# Altium integrated library Analog Devices RF IF Switches.IntLib: 52 symbols (part 3 of 3)
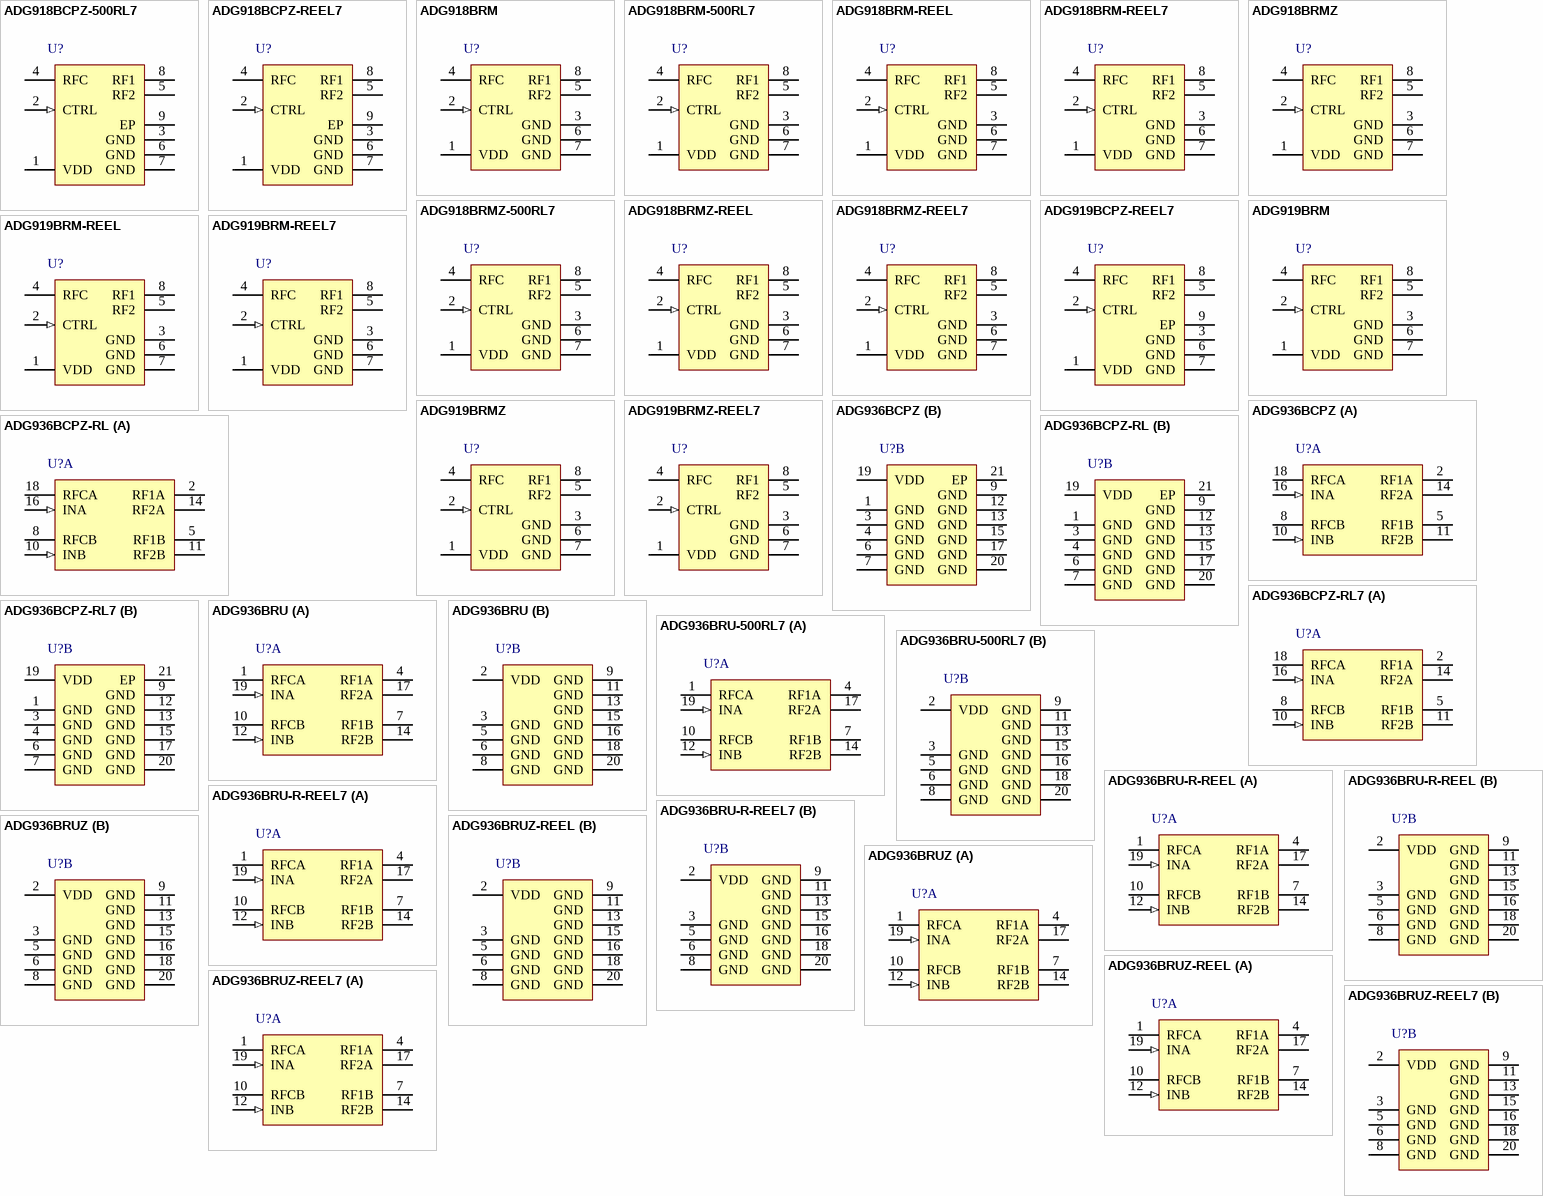
[diagram p3: symbols ADG918BCPZ-500RL7 to ADG936BRUZ-REEL7]

## ADG936BRUZ-REEL
designator U?
RF Switch, Wideband 4 GHz, 36 dB Isolation at 1 GHz, CMOS, 1.65 V to 2.75 V, Dual SPDT, RU-20, Pb-Free, 2500 Reel; Configuration: SPDT/NO-NC; # Sw Functions: 2; Supply Voltage: Single (+1.65V to +2.75V); Insertion Loss (dB): 900mdB; Bandwidth: 4GHz; P-1dB (dBm): 16; Off Isolation: 60dB; Off Isolation Test Freq: 100M; DatasheetVersion: RevA; PackageVersion: 2000; PackageReference: RU-20; PackageDescription: 20-Lead Thin Shrink Small Outline Package [TSSOP]; Code_JEDEC: MO-153AC; ComponentLink1Description: Manufacturer URL; ComponentLink1URL: www.analog.com; ComponentLink2Description: Datasheet; ComponentLink2URL: http://www.analog.com/static/imported-files/data_sheets/ADG936_936R.pdf; ComponentLink3Description: Package Specification; ComponentLink3URL: http://www.analog.com/static/imported-files/packages/364515793657813558433715854054607941441RU20.pdf
footprint ADI-RU-20_N (TSOP, 20-Leads, Body 6.5x4.4mm, Pitch 0.65mm, IPC Medium Density)
footprint ADI-RU-20_L (TSOP, 20-Leads, Body 6.5x4.4mm, Pitch 0.65mm, IPC High Density)
footprint ADI-RU-20_M (TSOP, 20-Leads, Body 6.5x4.4mm, Pitch 0.65mm, IPC Low Density)
part A pins: 1 RFCA "Common RF Port for Switch A.", 4 RF1A "RF1A Port.", 7 RF1B "RF1B Port.", 10 RFCB "Common RF Port for Switch B.", 12 INB (in) "Logic Control Input.", 14 RF2B "RF2B Port.", 17 RF2A "RF2A Port.", 19 INA (in) "Logic Control Input."
part B pins: 2 VDD (power) "Power Supply Input. These parts can operate from 1.65 V to 2.75 V. VDD should be decoupled to GND.", 3 GND (power) "Ground Reference Point for All Circuitry on the Part.", 5 GND (power) "Ground Reference Point for All Circuitry on the Part.", 6 GND (power) "Ground Reference Point for All Circuitry on the Part.", 8 GND (power) "Ground Reference Point for All Circuitry on the Part.", 9 GND (power) "Ground Reference Point for All Circuitry on the Part.", 11 GND (power) "Ground Reference Point for All Circuitry on the Part.", 13 GND (power) "Ground Reference Point for All Circuitry on the Part.", 15 GND (power) "Ground Reference Point for All Circuitry on the Part.", 16 GND (power) "Ground Reference Point for All Circuitry on the Part.", 18 GND (power) "Ground Reference Point for All Circuitry on the Part.", 20 GND (power) "Ground Reference Point for All Circuitry on the Part."

## ADG936BRUZ-REEL7
designator U?
RF Switch, Wideband 4 GHz, 36 dB Isolation at 1 GHz, CMOS, 1.65 V to 2.75 V, Dual SPDT, RU-20, Pb-Free, 1000 Reel; Configuration: SPDT/NO-NC; # Sw Functions: 2; Supply Voltage: Single (+1.65V to +2.75V); Insertion Loss (dB): 900mdB; Bandwidth: 4GHz; P-1dB (dBm): 16; Off Isolation: 60dB; Off Isolation Test Freq: 100M; DatasheetVersion: RevA; PackageVersion: 2000; PackageReference: RU-20; PackageDescription: 20-Lead Thin Shrink Small Outline Package [TSSOP]; Code_JEDEC: MO-153AC; ComponentLink1Description: Manufacturer URL; ComponentLink1URL: www.analog.com; ComponentLink2Description: Datasheet; ComponentLink2URL: http://www.analog.com/static/imported-files/data_sheets/ADG936_936R.pdf; ComponentLink3Description: Package Specification; ComponentLink3URL: http://www.analog.com/static/imported-files/packages/364515793657813558433715854054607941441RU20.pdf
footprint ADI-RU-20_N (TSOP, 20-Leads, Body 6.5x4.4mm, Pitch 0.65mm, IPC Medium Density)
footprint ADI-RU-20_L (TSOP, 20-Leads, Body 6.5x4.4mm, Pitch 0.65mm, IPC High Density)
footprint ADI-RU-20_M (TSOP, 20-Leads, Body 6.5x4.4mm, Pitch 0.65mm, IPC Low Density)
part A pins: 1 RFCA "Common RF Port for Switch A.", 4 RF1A "RF1A Port.", 7 RF1B "RF1B Port.", 10 RFCB "Common RF Port for Switch B.", 12 INB (in) "Logic Control Input.", 14 RF2B "RF2B Port.", 17 RF2A "RF2A Port.", 19 INA (in) "Logic Control Input."
part B pins: 2 VDD (power) "Power Supply Input. These parts can operate from 1.65 V to 2.75 V. VDD should be decoupled to GND.", 3 GND (power) "Ground Reference Point for All Circuitry on the Part.", 5 GND (power) "Ground Reference Point for All Circuitry on the Part.", 6 GND (power) "Ground Reference Point for All Circuitry on the Part.", 8 GND (power) "Ground Reference Point for All Circuitry on the Part.", 9 GND (power) "Ground Reference Point for All Circuitry on the Part.", 11 GND (power) "Ground Reference Point for All Circuitry on the Part.", 13 GND (power) "Ground Reference Point for All Circuitry on the Part.", 15 GND (power) "Ground Reference Point for All Circuitry on the Part.", 16 GND (power) "Ground Reference Point for All Circuitry on the Part.", 18 GND (power) "Ground Reference Point for All Circuitry on the Part.", 20 GND (power) "Ground Reference Point for All Circuitry on the Part."